# EAGLE library part WBC1_1TLB (library FM_transmitter)
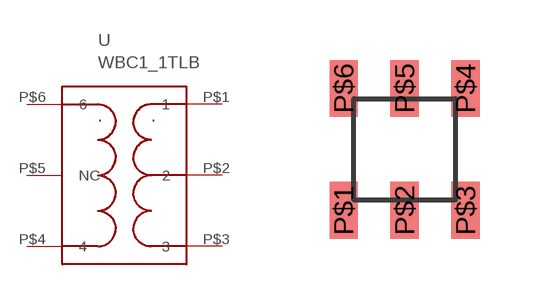
[diagram p2: symbol with the pads of WBC1_1; footprint WBC1_1]

Designator prefix -

## WBC1_1TLB  [WBC1_1]
P$1  1
P$2  2
P$3  3
P$4  4
P$5  NC
P$6  6

## Footprint WBC1_1 (pad centres in mm)
smd 0.711 x 1.422: P$1 -1.524,-1.524; P$2 0,-1.524; P$3 1.524,-1.524; P$4 1.524,1.524; P$5 0,1.524; P$6 -1.524,1.524